# Altium schematic symbol library passive_components.SchLib: 4 symbols
Pins are listed as number, name and electrical type; pins without a type are passive.

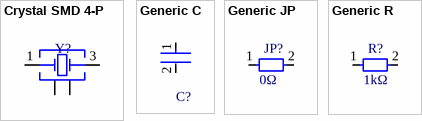
[diagram p0: symbols Crystal SMD 4-P to Generic R]

## Crystal SMD 4-P
designator Y?  (value not drawn)
Cristal SMD 4-P genérico; Manufacturer part: SX5B8.000F1020F30; Manufacturer: Shenzhen SCTF Elec; Frequency: 8 MHz; CL: 10 pF; ESR: 100 Ω; Datasheet: https://jlcpcb.com/api/file/downloadByFileSystemAccessId/8590208237112238080; Package: SMD5032-4P
footprint SMD5032-4P (5.0 x 3.2mm SMD)
pins: 1 Crystal, 2 GND & Lid, 3 Crystal, 4 GND & Lid

## Generic C
designator C?, comment Simbolo de capacitor genérico  (value not drawn)
Capacitance: 10uF; Dielectric: X5R; Voltage Rating: 10V; Tolerance: 10%; Case Code (Imperial): 0805; Mount: Surface Mount; Depth: 1.25mm; Length: 2mm; Lead Free: Lead Free; Packaging: Tape and Reel; Width: 0.049inch; Package Quantity: 1; Height: 1.25mm; Case/Package: 0805; Thickness: 0.053inch; Max Operating Temperature: 85°C; Case Code (Metric): 2012; Contact Plating: Tin; Min Operating Temperature: -55°C; Radiation Hardening: No; Voltage Rating (DC): 10V
footprint CAP_0805 (Chip Capacitor, 2-Leads, Body 2,00x1,25mm, IPC Medium Density)
footprint CAP_0603 (Chip Capacitor, 2-Leads, Body 1,60x0,80mm, IPC Medium Density)
pins: 1, 2

## Generic JP
designator JP?  value 0Ω  (no BOM)
Simbolo de jumper genérico
footprint RES_0R_0603 (0 Ohm resistor placeholder)
pins: 1, 2

## Generic R
designator R?, comment value 1kΩ  (hidden comment: Simbolo de resistencia genérica)
footprint RES_0805 (Chip Resistor, 2-Leads, Body 2,00x1,25mm, IPC Medium Density)
footprint RES_0603 (Chip Resistor, 2-Leads, Body 1,60x0,80mm, IPC Medium Density)
footprint RES_0R_0603 (0 Ohm resistor placeholder)
pins: 1, 2